# EAGLE library part 74HCT126PW,118 (library SamacSys_Parts)
74HC(T)126 - Quad buffer/line driver; 3-state@en-us Source: Datasheet <https://assets.nexperia.com/documents/data-sheet/74HC_HCT126.pdf>
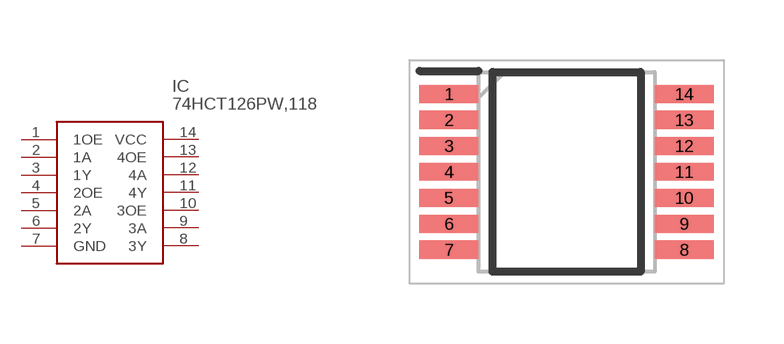
[diagram p216: symbol with the pads of SOP65P640X110-14N; footprint SOP65P640X110-14N]

Designator prefix IC

## 74HCT126PW,118 (DESCRIPTION: 74HC(T)126 - Quad buffer/line driver; 3-state@en-us; HEIGHT: 1.1mm; MANUFACTURER_NAME: Nexperia; MANUFACTURER_PART_NUMBER: 74HCT126PW,118; MOUSER_PART_NUMBER: 771-HCT126PW118; MOUSER_PRICE-STOCK: https://www.mouser.co.uk/ProductDetail/Nexperia/74HCT126PW118?qs=P62ublwmbi8uifHaS4wMug%3D%3D)  [SOP65P640X110-14N]
1  1OE
2  1A
3  1Y
4  2OE
5  2A
6  2Y
7  GND
8  3Y
9  3A
10  3OE
11  4Y
12  4A
13  4OE
14  VCC

## Footprint SOP65P640X110-14N (pad centres in mm)
SOT402-1
smd 1.475 x 0.45: 1 -2.938,1.95; 2 -2.938,1.3; 3 -2.938,0.65; 4 -2.938,0; 5 -2.938,-0.65; 6 -2.938,-1.3; 7 -2.938,-1.95; 8 2.938,-1.95; 9 2.938,-1.3; 10 2.938,-0.65; 11 2.938,0; 12 2.938,0.65; 13 2.938,1.3; 14 2.938,1.95